# Altium footprint library Sykam-LagerBauteile1.PcbLib: 24 footprints (part 2 of 2)
Each footprint in its own frame and in the unit in brackets; x right, y up, seen from the top. Pads: shape width x height; smd on the part's side, far side on the other; paste and mask are expansions set on the pad; w line width, h text height; cw(c..) or ccw(c..) is an arc to the next point about the centre after c.
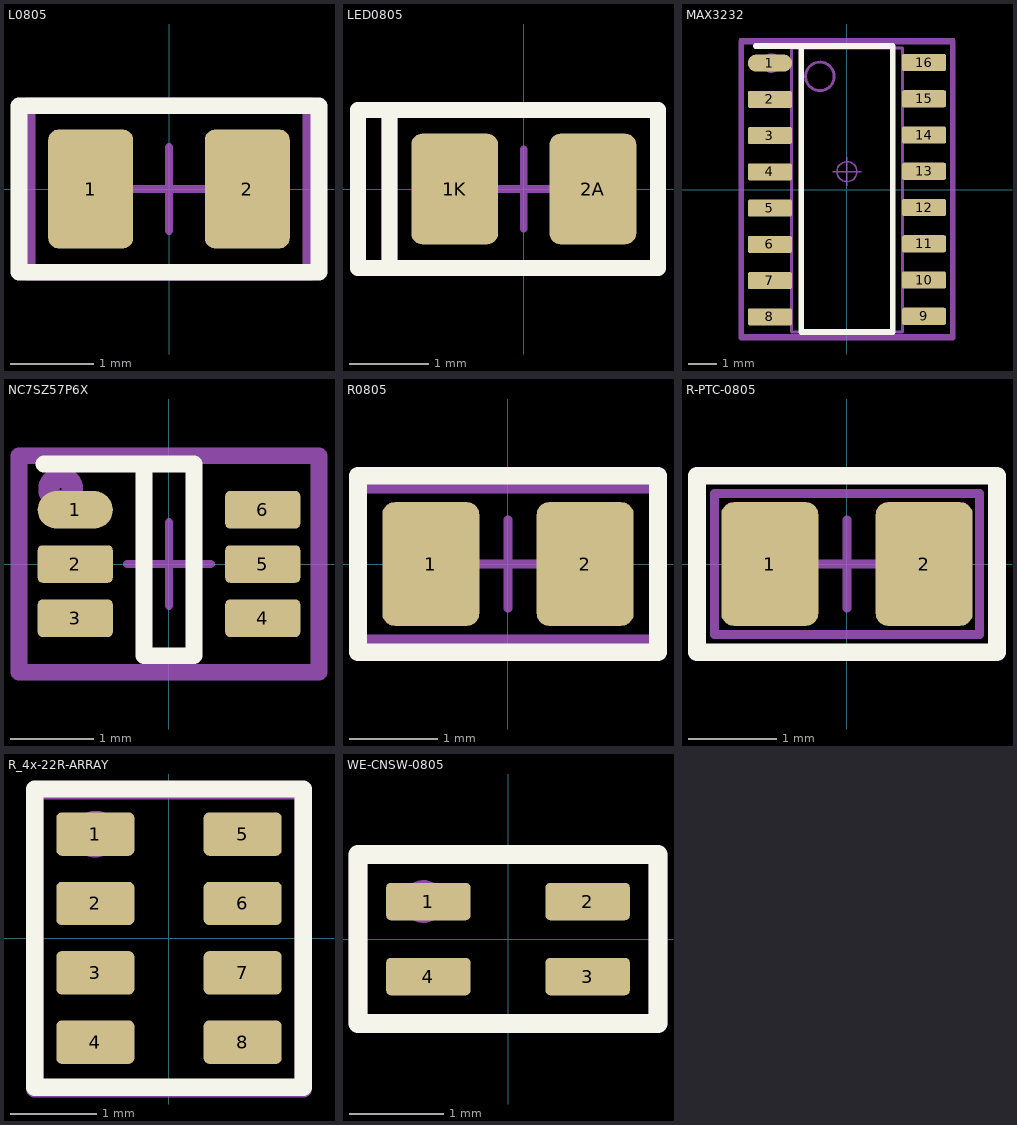
[diagram p1: the footprints below, top view; thin cyan lines are the x and y axes]

## L0805 [mm] "Chip Inductor, 2-Leads, Body 2,00x1,25mm, IPC Medium Density"
height 1
pads (2):
  rrect25% 1.02x1.43 smd: 1(-0.94,0) 2(0.94,0)
Top Overlay:
  lines w0.2: -1.8,-1 1.8,-1 1.8,1 -1.8,1 -1.8,-1
Top Assembly:
  lines w0.2: -1.7,-1 -1.7,1 1.7,1 1.7,-1 -1.7,-1
  text ".designator" at -3.999,-0.383 h0.8
Mechanical 15:
  lines w0.05: -1.7,-1 -1.7,1 1.7,1 1.7,-1 -1.7,-1
  lines w0.1: -0.5,0 0.5,0 ; 0,-0.5 0,0.5
3D body "L0805.step": height 1, standoff 0, extent -1.075,-0.7 1.075,0.7

## LED0805 [mm] "Chip Resistor, 2-Leads, Body 2,00x1,25mm, IPC Medium Density"
height 0.65
pads (2):
  rrect25% 1.1x1.4 smd: 1K(-0.875,0) 2A(0.875,0)
Top Overlay:
  lines w0.2: -1.7,-1 -2.1,-1 -2.1,1 -1.7,1 ; -1.7,-1 -1.7,1 ; -1.7,-1 1.7,-1 1.7,1 -1.7,1
Top Assembly:
  lines w0.2: -1.7,-1 -2.1,-1 -2.1,1 -1.7,1 ; -1.7,-1 -1.7,1 ; -1.7,-1 1.7,-1 1.7,1 -1.7,1
  text ".designator" at -2.999,-0.15 h0.6
Mechanical 15:
  lines w0.05: -1.7,-0.95 -1.7,0.95 1.7,0.95 1.7,-0.95 -1.7,-0.95
  lines w0.1: -0.5,0 0.5,0 ; 0,-0.5 0,0.5
3D body "LED_0805.step": height 1.1, standoff 0, extent -1,-0.625 1,0.625

## MAX3232 [mm] "SOIC 14 pin"
height 1.6
pads (16):
  oval 1.55x0.6 smd: 1(-2.7,4.435)
  rrect25% 1.55x0.6 smd: 2(-2.7,3.165) 3(-2.7,1.895) 4(-2.7,0.625) 5(-2.7,-0.645) 6(-2.7,-1.915) 7(-2.7,-3.185) 8(-2.7,-4.455) 9(2.7,-4.435) 10(2.7,-3.165) 11(2.7,-1.895) 12(2.7,-0.625) 13(2.7,0.645) 14(2.7,1.915) 15(2.7,3.185) 16(2.7,4.455)
Top Overlay:
  lines w0.2: -3.2,5.035 -2.2,5.035 -1.6,5.035 ; -1.6,5.035 -0.667,5.035 1.6,5.035 1.6,-4.985 -1.6,-4.985 -1.6,4.735 -1.6,5.035
Mechanical 1:
  circle w0.05: c0,0.635 r0.35
  lines w0.05: -0.5,0.635 0.5,0.635 ; 0,0.135 0,1.135 ; -3.75,-5.085 -3.75,5.28 3.75,5.28 3.75,-5.085 -3.75,-5.085
Mechanical 3:
  circle w0.1: c-0.95,3.97 r0.5
  lines w0.1: -1.95,-4.985 1.95,-4.985 1.95,4.97 -1.95,4.97 -1.95,-4.985
Top Assembly:
  circle w0.254: c-2.65,4.435 r0.212
  lines w0.2: -3.7,-5.185 -3.7,5.185 3.7,5.185 3.7,-5.185 -3.7,-5.185
  text ".designator" at -7.618,-0.463 h1.52
3D body "SOIC127P600X175-16.STEP": height 1.65, standoff 0, extent -3.04,-5 3.04,5

## NC7SZ57P6X [mm] "SOT23, 6-Leads, Body 2,00x2,10mm, Pitch 0,65mm, IPC Medium Density"
height 1
pads (6):
  oval 0.9x0.45 smd: 1(-1.125,0.65)
  rrect25% 0.9x0.45 smd: 2(-1.125,0) 3(-1.125,-0.65) 4(1.125,-0.65) 5(1.125,0) 6(1.125,0.65)
Top Overlay:
  lines w0.2: -1.5,1.2 0,1.2 ; -0.3,-1.1 0.3,-1.1 0.3,1.2 -0.3,1.2 -0.3,-1.1
Top Assembly:
  circle w0.254: c-1.3,0.9 r0.141
  lines w0.2: -1.8,-1.3 -1.8,1.3 1.8,1.3 1.8,-1.3 -1.8,-1.3
  text ".designator" at -3.999,-0.283 h0.8
Mechanical 15:
  lines w0.05: -1.8,-1.35 -1.8,1.35 1.8,1.35 1.8,-1.35 -1.8,-1.35
  lines w0.1: -0.5,0 0.5,0 ; 0,-0.5 0,0.5
3D body "NC7SZ57P6X.step": height 1, standoff 0, extent -1.2,-1.1 1.2,1.1

## R0805 [mm] "Chip Resistor, 2-Leads, Body 2,00x1,25mm, IPC Medium Density"
height 0.65
pads (2):
  rrect25% 1.1x1.4 smd: 1(-0.875,0) 2(0.875,0)
Top Overlay:
  lines w0.2: -1.7,-1 1.7,-1 1.7,1 -1.7,1 -1.7,-1
Top Assembly:
  lines w0.2: -1.7,-0.9 1.7,-0.9 1.7,0.9 -1.7,0.9 -1.7,-0.9
  text ".designator" at -2.999,-0.15 h0.6
Mechanical 15:
  lines w0.05: -1.7,-0.95 1.7,-0.95 1.7,0.95 -1.7,0.95 -1.7,-0.95
  lines w0.1: -0.5,0 0.5,0 ; 0,-0.5 0,0.5
3D body "R0805.step": height 0.65, standoff 0, extent -1.075,-0.7 1.075,0.7

## R-PTC-0805 [mm] "Chip Resistor, 2-Leads, Body 2,00x1,25mm, IPC Medium Density"
height 0.65
pads (2):
  rrect25% 1.1x1.4 smd: 1(-0.875,0) 2(0.875,0)
Top Overlay:
  lines w0.2: -1.7,-1 -1.7,1 1.7,1 1.7,-1 -1.7,-1
Top Assembly:
  lines w0.1: -1.5,-0.8 -1.5,0.8 1.5,0.8 1.5,-0.8 -1.5,-0.8
  text ".designator" at -2.999,-0.15 h0.6
Mechanical 15:
  lines w0.05: -1.7,-0.95 -1.7,0.95 1.7,0.95 1.7,-0.95 -1.7,-0.95
  lines w0.1: -0.5,0 0.5,0 ; 0,-0.5 0,0.5
3D body "PTC-0805.STEP": height 0.61, standoff 0.01, extent -1,-0.625 1,0.625

## R_4x-22R-ARRAY [mm] "Resistor Array 0.8mm"
pads (8):
  rrect25% 0.9x0.5 smd mask+0.08: 1(-0.85,1.2) 2(-0.85,0.4) 3(-0.85,-0.4) 4(-0.85,-1.2) 5(0.85,1.2) 6(0.85,0.4) 7(0.85,-0.4) 8(0.85,-1.2)
Top Overlay:
  lines w0.2: -1.55,-1.72 1.55,-1.72 1.55,1.72 -1.55,1.72 -1.55,-1.72
Top Assembly:
  circle w0.254: c-0.85,1.2 r0.141
  lines w0.2: -1.55,-1.74 -1.55,1.7 1.55,1.7 1.55,-1.74 -1.55,-1.74
  text ".designator" at -2.999,-0.2 h0.6
3D body "R_ARRAY-1206-TC164_I.STEP": height 0.55, standoff 0, extent -0.8,-1.6 0.8,1.6

## WE-CNSW-0805 [mm] "SMD Inductor, 4-Leads, Body 1.4 x 2.2 mm"
height 1.4
pads (4):
  rrect25% 0.9x0.4 smd: 1(-0.85,0.4) 2(0.85,0.4) 3(0.85,-0.4) 4(-0.85,-0.4)
Top Overlay:
  lines w0.2: -1.6,-0.9 -1.6,0.9 1.6,0.9 1.6,-0.9 -1.6,-0.9
Top Assembly:
  circle w0.254: c-0.9,0.4 r0.1
  lines w0.2: -1.6,-0.9 -1.6,0.9 1.6,0.9 1.6,-0.9 -1.6,-0.9
  text ".designator" at -3.999,-0.379 h0.8
3D body "744231371.stp": height 1.18, standoff -0.02, extent -1,-0.6 1,0.6